# Altium schematic symbol library FDMS86101A.SchLib: 1 symbol
Pins are listed as number, name and electrical type; pins without a type are passive.

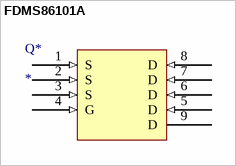
[diagram p0: symbol FDMS86101A]

## FDMS86101A
designator Q*
MOSFET N-CH 100V 13A POWER56; SPN: FDMS86101ACT-ND
footprint FDMS86101A (SON, 8-Leads, Body 5.10x6.15mm, Pitch 1.27mm, Thermal Pad 3.91x3.13mm, IPC Medium Density)
pins: 1 S (in), 2 S (in), 3 S (in), 4 G (in), 5 D (in), 6 D (in), 7 D (in), 8 D (in), 9 D